# Altium integrated library TPS76333DBVR.IntLib: 1 symbol
Pins are listed as number, name and electrical type; pins without a type are passive.

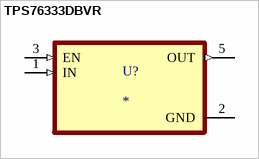
[diagram p0: symbol TPS76333DBVR]

## TPS76333DBVR
designator U?
150-mA, 10-V, low-dropout voltage regulator with enable; MF: Texas Instruments; MP: TPS76333DBVR; Availability: In Stock; SnapEDA_Link: https://www.snapeda.com/parts/TPS76333DBVR/Texas+Instruments/view-part/?ref=snap; Price: None; Check_prices: https://www.snapeda.com/parts/TPS76333DBVR/Texas+Instruments/view-part/?ref=eda; Package: SOT-23-5 Texas Instruments; Value: *; Purchase-URL: https://pricing.snapeda.com/search/part/TPS76333DBVR/?ref=eda
footprint SOT95P280X145-5N
pins: 1 IN (in), 2 GND (power), 3 EN (in), 5 OUT (out)